# Altium schematic symbol library SportsLight.SchLib: 3 symbols
Pins are listed as number, name and electrical type; pins without a type are passive.

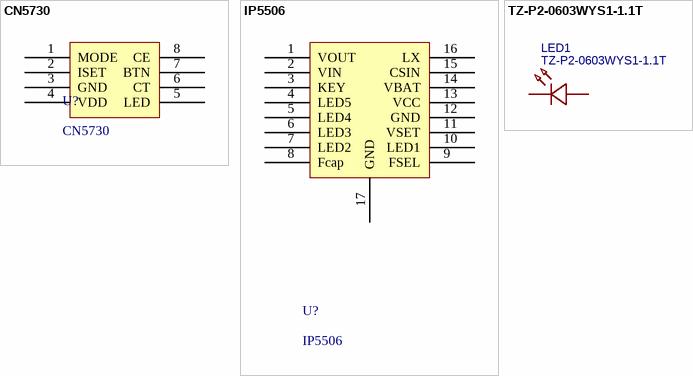
[diagram p0: symbols CN5730 to TZ-P2-0603WYS1-1.1T]

## CN5730
designator U?
pins: 1 MODE, 2 ISET, 3 GND, 4 VDD, 5 LED, 6 CT, 7 BTN, 8 CE

## IP5506
designator U?
pins: 1 VOUT, 2 VIN, 3 KEY, 4 LED5, 5 LED4, 6 LED3, 7 LED2, 8 Fcap, 9 FSEL, 10 LED1, 11 VSET, 12 GND, 13 VCC, 14 VBAT, 15 CSIN, 16 LX, 17 GND

## TZ-P2-0603WYS1-1.1T
designator LED1
BOM_Manufacturer: TUOZHAN; Contributor: LCSC; BOM_Supplier: LCSC; BOM_Supplier Part: C916072; BOM_Manufacturer Part: TZ-P2-0603WYS1-1.1T; BOM_JLCPCB Part Class: Extended Part; spicePre: L; spiceSymbolName: TZ-P2-0603WYS1-1.1T
footprint LED-SMD_L1.6-W1.2-RD
pins: 1 K, 2 A